# Altium integrated library Analog Devices Data Converters Digital-to-Analog Converters.IntLib: 2231 symbols (part 71 of 181)
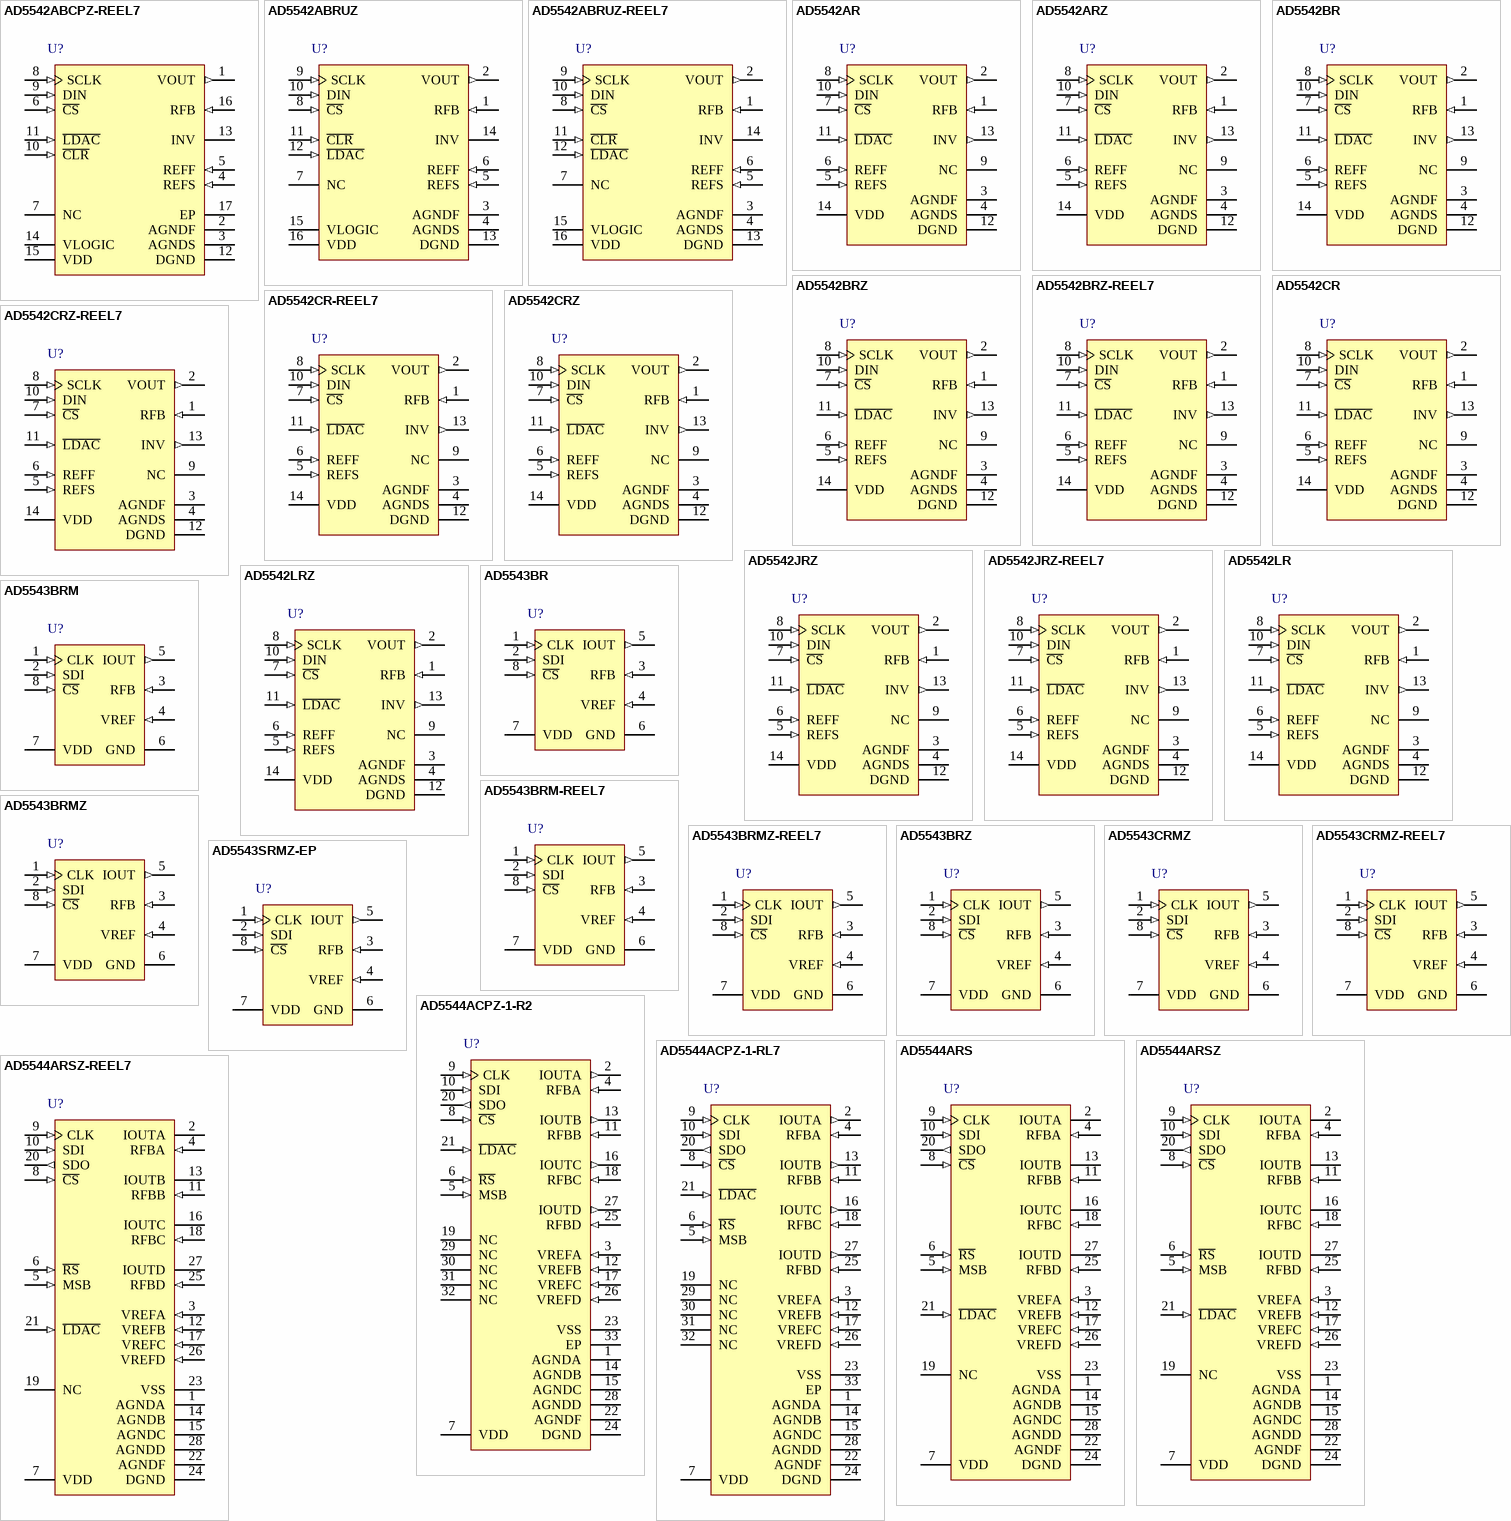
[diagram p184: symbols AD5542ABCPZ-REEL7 to AD5544ARSZ-REEL7]

## AD5543BRM
designator U?
Single 16-Bit Current Output Digital-to-Analog Converter with Serial Interface, -40 to +85 degC, RM-8, Tube; Generic Part Number: AD5543; Manufacturer: Analog Devices; PartNumber: AD5543BRM; # DAC Outputs: 1; Max V+: 5.5V; Op Pwr Diss: 55µW; Resolution (Bits): 16; Settling Time: 500ns; Single Supply: Yes; DatasheetVersion: Rev.F; PackageVersion: Aug-2005; PackageReference: RM-8; PackageDescription: 8-Lead Mini Small Outline Package [MSOP]; Supplier 1: Digi-Key; Supplier Part Number 1: AD5543BRM-ND; Supplier 2: Mouser; Supplier Part Number 2: 584-AD5543BRM; Packing: Tube; RoHS: N; Mounting Technology: Surface Mount; Code_JEDEC: MO-187-AA; ComponentLink1Description: Manufacturer URL; ComponentLink1URL: http://www.analog.com/en/index.html; ComponentLink2Description: Datasheet; ComponentLink2URL: http://www.analog.com/static/imported-files/data_sheets/AD5543_5553.pdf; ComponentLink3Description: Package Specification; ComponentLink3URL: http://www.analog.com/static/imported-files/packages/PKG_PDF/MSOP%28RM%29/RM_8.pdf; ComponentLink4Description: Product URL; ComponentLink4URL: http://www.analog.com/en/digital-to-analog-converters/da-converters/ad5543/products/product.html; ComponentLink5Description: Reference Design URL; ComponentLink5URL: http://www.analog.com/en/digital-to-analog-converters/da-converters/ad5543/products/product.html#prod_cross_sell
footprint RM-8_N (TSOP, 8-Leads, Body 3x3mm, Pitch 0.65mm, IPC Medium Density)
footprint RM-8_L (TSOP, 8-Leads, Body 3x3mm, Pitch 0.65mm, IPC High Density)
footprint RM-8_M (TSOP, 8-Leads, Body 3x3mm, Pitch 0.65mm, IPC Low Density)
pins: 1 CLK (in) "Clock Input. Positive-edge triggered, clocks data into shift register.", 2 SDI (in) "Serial Register Input. Data loads directly into the shift register MSB first. Extra leading bits are ignored.", 3 RFB (in) "Internal Matching Feedback Resistor. This pin connects to an external op amp for voltage output.", 4 VREF (in) "DAC Reference Input Pin. Establishes DAC full-scale voltage. Constant input resistance vs. code.", 5 IOUT (out) "DAC Current Output. This pin connects to the inverting terminal of the external precision I-to-V op amp for voltage output.", 6 GND (power) "Analog and Digital Ground.", 7 VDD (power) "Positive Power Supply Input. Specified range of operation at 5 V +/- 10%.", 8 ~{CS} (in) "Chip Select. Active low digital input. Transfers shift-register data to DAC register on rising edge. See Table 4 for operation."

## AD5543BRM-REEL7
designator U?
Single 16-Bit Current Output Digital-to-Analog Converter with Serial Interface, -40 to +85 degC, RM-8, Reel; Generic Part Number: AD5543; Manufacturer: Analog Devices; PartNumber: AD5543BRM-REEL7; # DAC Outputs: 1; Max V+: 5.5V; Op Pwr Diss: 55µW; Resolution (Bits): 16; Settling Time: 500ns; Single Supply: Yes; DatasheetVersion: Rev.F; PackageVersion: Aug-2005; PackageReference: RM-8; PackageDescription: 8-Lead Mini Small Outline Package [MSOP]; Supplier 1: Digi-Key; Supplier Part Number 1: AD5543BRM-REEL7-ND; Supplier 2: Newark; Supplier Part Number 2: 50H3196; Supplier 3: Mouser; Supplier Part Number 3: 584-AD5543BRM-R7; Packing: Reel; RoHS: N; Mounting Technology: Surface Mount; Code_JEDEC: MO-187-AA; ComponentLink1Description: Manufacturer URL; ComponentLink1URL: http://www.analog.com/en/index.html; ComponentLink2Description: Datasheet; ComponentLink2URL: http://www.analog.com/static/imported-files/data_sheets/AD5543_5553.pdf; ComponentLink3Description: Package Specification; ComponentLink3URL: http://www.analog.com/static/imported-files/packages/PKG_PDF/MSOP%28RM%29/RM_8.pdf; ComponentLink4Description: Product URL; ComponentLink4URL: http://www.analog.com/en/digital-to-analog-converters/da-converters/ad5543/products/product.html; ComponentLink5Description: Reference Design URL; ComponentLink5URL: http://www.analog.com/en/digital-to-analog-converters/da-converters/ad5543/products/product.html#prod_cross_sell
footprint RM-8_N (TSOP, 8-Leads, Body 3x3mm, Pitch 0.65mm, IPC Medium Density)
footprint RM-8_L (TSOP, 8-Leads, Body 3x3mm, Pitch 0.65mm, IPC High Density)
footprint RM-8_M (TSOP, 8-Leads, Body 3x3mm, Pitch 0.65mm, IPC Low Density)
pins: 1 CLK (in) "Clock Input. Positive-edge triggered, clocks data into shift register.", 2 SDI (in) "Serial Register Input. Data loads directly into the shift register MSB first. Extra leading bits are ignored.", 3 RFB (in) "Internal Matching Feedback Resistor. This pin connects to an external op amp for voltage output.", 4 VREF (in) "DAC Reference Input Pin. Establishes DAC full-scale voltage. Constant input resistance vs. code.", 5 IOUT (out) "DAC Current Output. This pin connects to the inverting terminal of the external precision I-to-V op amp for voltage output.", 6 GND (power) "Analog and Digital Ground.", 7 VDD (power) "Positive Power Supply Input. Specified range of operation at 5 V +/- 10%.", 8 ~{CS} (in) "Chip Select. Active low digital input. Transfers shift-register data to DAC register on rising edge. See Table 4 for operation."

## AD5543BRMZ
designator U?
Single 16-Bit Current Output Digital-to-Analog Converter with Serial Interface, -40 to +85 degC, RM-8, Pb-Free, Tube; Generic Part Number: AD5543; Manufacturer: Analog Devices; PartNumber: AD5543BRMZ; # DAC Outputs: 1; Max V+: 5.5V; Op Pwr Diss: 55µW; Resolution (Bits): 16; Settling Time: 500ns; Single Supply: Yes; DatasheetVersion: Rev.F; PackageVersion: Aug-2005; PackageReference: RM-8; PackageDescription: 8-Lead Mini Small Outline Package [MSOP]; Supplier 1: Digi-Key; Supplier Part Number 1: AD5543BRMZ-ND; Supplier 2: Farnell; Supplier Part Number 2: 2312801; Supplier 3: Newark; Supplier Part Number 3: 59K4215; Supplier 4: Mouser; Supplier Part Number 4: 584-AD5543BRMZ; Packing: Tube; RoHS: Y; Mounting Technology: Surface Mount; Code_JEDEC: MO-187-AA; ComponentLink1Description: Manufacturer URL; ComponentLink1URL: http://www.analog.com/en/index.html; ComponentLink2Description: Datasheet; ComponentLink2URL: http://www.analog.com/static/imported-files/data_sheets/AD5543_5553.pdf; ComponentLink3Description: Package Specification; ComponentLink3URL: http://www.analog.com/static/imported-files/packages/PKG_PDF/MSOP%28RM%29/RM_8.pdf; ComponentLink4Description: Product URL; ComponentLink4URL: http://www.analog.com/en/digital-to-analog-converters/da-converters/ad5543/products/product.html; ComponentLink5Description: Reference Design URL; ComponentLink5URL: http://www.analog.com/en/digital-to-analog-converters/da-converters/ad5543/products/product.html#prod_cross_sell
footprint RM-8_N (TSOP, 8-Leads, Body 3x3mm, Pitch 0.65mm, IPC Medium Density)
footprint RM-8_L (TSOP, 8-Leads, Body 3x3mm, Pitch 0.65mm, IPC High Density)
footprint RM-8_M (TSOP, 8-Leads, Body 3x3mm, Pitch 0.65mm, IPC Low Density)
pins: 1 CLK (in) "Clock Input. Positive-edge triggered, clocks data into shift register.", 2 SDI (in) "Serial Register Input. Data loads directly into the shift register MSB first. Extra leading bits are ignored.", 3 RFB (in) "Internal Matching Feedback Resistor. This pin connects to an external op amp for voltage output.", 4 VREF (in) "DAC Reference Input Pin. Establishes DAC full-scale voltage. Constant input resistance vs. code.", 5 IOUT (out) "DAC Current Output. This pin connects to the inverting terminal of the external precision I-to-V op amp for voltage output.", 6 GND (power) "Analog and Digital Ground.", 7 VDD (power) "Positive Power Supply Input. Specified range of operation at 5 V +/- 10%.", 8 ~{CS} (in) "Chip Select. Active low digital input. Transfers shift-register data to DAC register on rising edge. See Table 4 for operation."

## AD5543BRMZ-REEL7
designator U?
Single 16-Bit Current Output Digital-to-Analog Converter with Serial Interface, -40 to +85 degC, RM-8, Pb-Free, Reel; Generic Part Number: AD5543; Manufacturer: Analog Devices; PartNumber: AD5543BRMZ-REEL7; # DAC Outputs: 1; Max V+: 5.5V; Op Pwr Diss: 55µW; Resolution (Bits): 16; Settling Time: 500ns; Single Supply: Yes; DatasheetVersion: Rev.F; PackageVersion: Aug-2005; PackageReference: RM-8; PackageDescription: 8-Lead Mini Small Outline Package [MSOP]; Supplier 1: Digi-Key; Supplier Part Number 1: AD5543BRMZ-REEL7-ND; Supplier 2: Mouser; Supplier Part Number 2: 584-AD5543BRMZ-R7; Packing: Reel; RoHS: Y; Mounting Technology: Surface Mount; Code_JEDEC: MO-187-AA; ComponentLink1Description: Manufacturer URL; ComponentLink1URL: http://www.analog.com/en/index.html; ComponentLink2Description: Datasheet; ComponentLink2URL: http://www.analog.com/static/imported-files/data_sheets/AD5543_5553.pdf; ComponentLink3Description: Package Specification; ComponentLink3URL: http://www.analog.com/static/imported-files/packages/PKG_PDF/MSOP%28RM%29/RM_8.pdf; ComponentLink4Description: Product URL; ComponentLink4URL: http://www.analog.com/en/digital-to-analog-converters/da-converters/ad5543/products/product.html; ComponentLink5Description: Reference Design URL; ComponentLink5URL: http://www.analog.com/en/digital-to-analog-converters/da-converters/ad5543/products/product.html#prod_cross_sell
footprint RM-8_N (TSOP, 8-Leads, Body 3x3mm, Pitch 0.65mm, IPC Medium Density)
footprint RM-8_L (TSOP, 8-Leads, Body 3x3mm, Pitch 0.65mm, IPC High Density)
footprint RM-8_M (TSOP, 8-Leads, Body 3x3mm, Pitch 0.65mm, IPC Low Density)
pins: 1 CLK (in) "Clock Input. Positive-edge triggered, clocks data into shift register.", 2 SDI (in) "Serial Register Input. Data loads directly into the shift register MSB first. Extra leading bits are ignored.", 3 RFB (in) "Internal Matching Feedback Resistor. This pin connects to an external op amp for voltage output.", 4 VREF (in) "DAC Reference Input Pin. Establishes DAC full-scale voltage. Constant input resistance vs. code.", 5 IOUT (out) "DAC Current Output. This pin connects to the inverting terminal of the external precision I-to-V op amp for voltage output.", 6 GND (power) "Analog and Digital Ground.", 7 VDD (power) "Positive Power Supply Input. Specified range of operation at 5 V +/- 10%.", 8 ~{CS} (in) "Chip Select. Active low digital input. Transfers shift-register data to DAC register on rising edge. See Table 4 for operation."

## AD5543BRZ
designator U?
Single 16-Bit Current Output Digital-to-Analog Converter with Serial Interface, -40 to +85 degC, R-8, Pb-Free, Tube; Generic Part Number: AD5543; Manufacturer: Analog Devices; PartNumber: AD5543BRZ; # DAC Outputs: 1; Max V+: 5.5V; Op Pwr Diss: 55µW; Resolution (Bits): 16; Settling Time: 500ns; Single Supply: Yes; DatasheetVersion: Rev.F; PackageVersion: 060506-A; PackageReference: R-8; PackageDescription: 8-Lead Standard Small Outline Package [SOIC_N] Narrow Body; Supplier 1: Digi-Key; Supplier Part Number 1: AD5543BRZ-ND; Supplier 2: Farnell; Supplier Part Number 2: 1438376; Supplier 3: Newark; Supplier Part Number 3: 59K4216; Supplier 4: Mouser; Supplier Part Number 4: 584-AD5543BRZ; Packing: Tube; RoHS: Y; Mounting Technology: Surface Mount; Code_JEDEC: MS-012-AA; Code_IPC: SOIC127P600-8; ComponentLink1Description: Manufacturer URL; ComponentLink1URL: http://www.analog.com/en/index.html; ComponentLink2Description: Datasheet; ComponentLink2URL: http://www.analog.com/static/imported-files/data_sheets/AD5543_5553.pdf; ComponentLink3Description: Package Specification; ComponentLink3URL: http://www.analog.com/static/imported-files/packages/PKG_PDF/SOIC_Narrow%20(R)/R_8.pdf; ComponentLink4Description: Product URL; ComponentLink4URL: http://www.analog.com/en/digital-to-analog-converters/da-converters/ad5543/products/product.html; ComponentLink5Description: Reference Design URL; ComponentLink5URL: http://www.analog.com/en/digital-to-analog-converters/da-converters/ad5543/products/product.html#prod_cross_sell
footprint R-8_N (SOIC, 8-Leads, Body 4.9x3.9mm, Pitch 1.27mm, IPC Medium Density)
footprint R-8_L (SOIC, 8-Leads, Body 4.9x3.9mm, Pitch 1.27mm, IPC High Density)
footprint R-8_M (SOIC, 8-Leads, Body 4.9x3.9mm, Pitch 1.27mm, IPC Low Density)
pins: 1 CLK (in) "Clock Input. Positive-edge triggered, clocks data into shift register.", 2 SDI (in) "Serial Register Input. Data loads directly into the shift register MSB first. Extra leading bits are ignored.", 3 RFB (in) "Internal Matching Feedback Resistor. This pin connects to an external op amp for voltage output.", 4 VREF (in) "DAC Reference Input Pin. Establishes DAC full-scale voltage. Constant input resistance vs. code.", 5 IOUT (out) "DAC Current Output. This pin connects to the inverting terminal of the external precision I-to-V op amp for voltage output.", 6 GND (power) "Analog and Digital Ground.", 7 VDD (power) "Positive Power Supply Input. Specified range of operation at 5 V +/- 10%.", 8 ~{CS} (in) "Chip Select. Active low digital input. Transfers shift-register data to DAC register on rising edge.See Table 4 for operation."

## AD5543CRMZ
designator U?
Single 16-Bit Current Output Digital-to-Analog Converter with Serial Interface, -40 to +85 degC, RM-8, Pb-Free, Tube; Generic Part Number: AD5543; Manufacturer: Analog Devices; PartNumber: AD5543CRMZ; # DAC Outputs: 1; Max V+: 5.5V; Op Pwr Diss: 55µW; Resolution (Bits): 16; Settling Time: 500ns; Single Supply: Yes; DatasheetVersion: Rev.F; PackageVersion: Aug-2005; PackageReference: RM-8; PackageDescription: 8-Lead Mini Small Outline Package [MSOP]; Supplier 1: Digi-Key; Supplier Part Number 1: AD5543CRMZ-ND; Supplier 2: Newark; Supplier Part Number 2: 51R0717; Supplier 3: Mouser; Supplier Part Number 3: 584-AD5543CRMZ; Packing: Tube; RoHS: Y; Mounting Technology: Surface Mount; Code_JEDEC: MO-187-AA; ComponentLink1Description: Manufacturer URL; ComponentLink1URL: http://www.analog.com/en/index.html; ComponentLink2Description: Datasheet; ComponentLink2URL: http://www.analog.com/static/imported-files/data_sheets/AD5543_5553.pdf; ComponentLink3Description: Package Specification; ComponentLink3URL: http://www.analog.com/static/imported-files/packages/PKG_PDF/MSOP%28RM%29/RM_8.pdf; ComponentLink4Description: Product URL; ComponentLink4URL: http://www.analog.com/en/digital-to-analog-converters/da-converters/ad5555/products/product.html; ComponentLink5Description: Reference Design URL; ComponentLink5URL: http://www.analog.com/en/digital-to-analog-converters/da-converters/ad5543/products/product.html#prod_cross_sell
footprint RM-8_N (TSOP, 8-Leads, Body 3x3mm, Pitch 0.65mm, IPC Medium Density)
footprint RM-8_L (TSOP, 8-Leads, Body 3x3mm, Pitch 0.65mm, IPC High Density)
footprint RM-8_M (TSOP, 8-Leads, Body 3x3mm, Pitch 0.65mm, IPC Low Density)
pins: 1 CLK (in) "Clock Input. Positive-edge triggered, clocks data into shift register.", 2 SDI (in) "Serial Register Input. Data loads directly into the shift register MSB first. Extra leading bits are ignored.", 3 RFB (in) "Internal Matching Feedback Resistor. This pin connects to an external op amp for voltage output.", 4 VREF (in) "DAC Reference Input Pin. Establishes DAC full-scale voltage. Constant input resistance vs. code.", 5 IOUT (out) "DAC Current Output. This pin connects to the inverting terminal of the external precision I-to-V op amp for voltage output.", 6 GND (power) "Analog and Digital Ground.", 7 VDD (power) "Positive Power Supply Input. Specified range of operation at 5 V +/- 10%.", 8 ~{CS} (in) "Chip Select. Active low digital input. Transfers shift-register data to DAC register on rising edge. See Table 4 for operation."

## AD5543CRMZ-REEL7
designator U?
Single 16-Bit Current Output Digital-to-Analog Converter with Serial Interface, -40 to +85 degC, RM-8, Pb-Free, Reel; Generic Part Number: AD5543; Manufacturer: Analog Devices; PartNumber: AD5543CRMZ-REEL7; # DAC Outputs: 1; Max V+: 5.5V; Op Pwr Diss: 55µW; Resolution (Bits): 16; Settling Time: 500ns; Single Supply: Yes; DatasheetVersion: Rev.F; PackageVersion: Aug-2005; PackageReference: RM-8; PackageDescription: 8-Lead Mini Small Outline Package [MSOP]; Supplier 1: Digi-Key; Supplier Part Number 1: AD5543CRMZ-REEL7-ND; Supplier 2: Mouser; Supplier Part Number 2: 584-AD5543CRMZ-R7; Packing: Reel; RoHS: Y; Mounting Technology: Surface Mount; Code_JEDEC: MO-187-AA; ComponentLink1Description: Manufacturer URL; ComponentLink1URL: http://www.analog.com/en/index.html; ComponentLink2Description: Datasheet; ComponentLink2URL: http://www.analog.com/static/imported-files/data_sheets/AD5543_5553.pdf; ComponentLink3Description: Package Specification; ComponentLink3URL: http://www.analog.com/static/imported-files/packages/PKG_PDF/MSOP%28RM%29/RM_8.pdf; ComponentLink4Description: Product URL; ComponentLink4URL: http://www.analog.com/en/digital-to-analog-converters/da-converters/ad5543/products/product.html; ComponentLink5Description: Reference Design URL; ComponentLink5URL: http://www.analog.com/en/digital-to-analog-converters/da-converters/ad5543/products/product.html#prod_cross_sell
footprint RM-8_N (TSOP, 8-Leads, Body 3x3mm, Pitch 0.65mm, IPC Medium Density)
footprint RM-8_L (TSOP, 8-Leads, Body 3x3mm, Pitch 0.65mm, IPC High Density)
footprint RM-8_M (TSOP, 8-Leads, Body 3x3mm, Pitch 0.65mm, IPC Low Density)
pins: 1 CLK (in) "Clock Input. Positive-edge triggered, clocks data into shift register.", 2 SDI (in) "Serial Register Input. Data loads directly into the shift register MSB first. Extra leading bits are ignored.", 3 RFB (in) "Internal Matching Feedback Resistor. This pin connects to an external op amp for voltage output.", 4 VREF (in) "DAC Reference Input Pin. Establishes DAC full-scale voltage. Constant input resistance vs. code.", 5 IOUT (out) "DAC Current Output. This pin connects to the inverting terminal of the external precision I-to-V op amp for voltage output.", 6 GND (power) "Analog and Digital Ground.", 7 VDD (power) "Positive Power Supply Input. Specified range of operation at 5 V +/- 10%.", 8 ~{CS} (in) "Chip Select. Active low digital input. Transfers shift-register data to DAC register on rising edge. See Table 4 for operation."

## AD5543SRMZ-EP
designator U?
Single 16-Bit Current Output Digital-to-Analog Converter with Serial Interface, -55 to +125 degC, RM-8, Pb-Free, Tube; Generic Part Number: AD5543; Manufacturer: Analog Devices; PartNumber: AD5543SRMZ-EP; # DAC Outputs: 1; Max V+: 5.5V; Op Pwr Diss: 55µW; Resolution (Bits): 16; Settling Time: 500ns; Single Supply: Yes; DatasheetVersion: Rev.0; PackageVersion: Aug-2005; PackageReference: RM-8; PackageDescription: 8-Lead Mini Small Outline Package [MSOP]; Supplier 1: Digi-Key; Supplier Part Number 1: AD5543SRMZ-EP-ND; Supplier 2: Mouser; Supplier Part Number 2: 584-AD5543SRMZ-EP; Packing: Tube; RoHS: Y; Mounting Technology: Surface Mount; Code_JEDEC: MO-187-AA; ComponentLink1Description: Manufacturer URL; ComponentLink1URL: http://www.analog.com/en/index.html; ComponentLink2Description: Datasheet; ComponentLink2URL: http://www.analog.com/static/imported-files/data_sheets/AD5543-EP.pdf; ComponentLink3Description: Package Specification; ComponentLink3URL: http://www.analog.com/static/imported-files/packages/PKG_PDF/MSOP%28RM%29/RM_8.pdf; ComponentLink4Description: Product URL; ComponentLink4URL: http://www.analog.com/en/digital-to-analog-converters/da-converters/ad5543/products/product.html; ComponentLink5Description: Reference Design URL; ComponentLink5URL: http://www.analog.com/en/digital-to-analog-converters/da-converters/ad5543/products/product.html#prod_cross_sell
footprint RM-8_N (TSOP, 8-Leads, Body 3x3mm, Pitch 0.65mm, IPC Medium Density)
footprint RM-8_L (TSOP, 8-Leads, Body 3x3mm, Pitch 0.65mm, IPC High Density)
footprint RM-8_M (TSOP, 8-Leads, Body 3x3mm, Pitch 0.65mm, IPC Low Density)
pins: 1 CLK (in) "Clock Input. Positive-edge triggered, clocks data into shift register.", 2 SDI (in) "Serial Register Input. Data loads directly into the shift register MSB first. Extra leading bits are ignored.", 3 RFB (in) "Internal Matching Feedback Resistor. This pin connects to an external op amp for voltage output.", 4 VREF (in) "DAC Reference Input Pin. Establishes DAC full-scale voltage. Constant input resistance vs. code.", 5 IOUT (out) "DAC Current Output. This pin connects to the inverting terminal of the external precision I-to-V op amp for voltage output.", 6 GND (power) "Analog and Digital Ground.", 7 VDD (power) "Positive Power Supply Input. Specified range of operation at 5 V +/- 10%.", 8 ~{CS} (in) "Chip Select. Active low digital input. Transfers shift-register data to DAC register on rising edge. See Table 4 for operation."

## AD5544ACPZ-1-R2
designator U?
Quad 16-Bit Digital-to-Analog Converter with Serial Interface, -40 to +125 degC, CP-32-11, Pb-Free, Reel; Generic Part Number: AD5544; Manufacturer: Analog Devices; PartNumber: AD5544ACPZ-1-R2; # DAC Outputs: 4; Max V+: 5.5V; Op Pwr Diss: 1.25mW; Resolution (Bits): 16; Settling Time: 900ns; Single Supply: Yes; DatasheetVersion: Rev.F; PackageVersion: 011708-A; PackageReference: CP-32-11; PackageDescription: 32-Lead Lead Frame Chip Scale Package [LFCSP_VQ] 5 x 5 mm Body, Very Thin Quad; Supplier 1: Digi-Key; Supplier Part Number 1: AD5544ACPZ-1-R2-ND; Supplier 2: Mouser; Supplier Part Number 2: 584-AD5544ACPZ-1-R2; Packing: Reel; RoHS: Y; Mounting Technology: Surface Mount; ComponentLink1Description: Manufacturer URL; ComponentLink1URL: http://www.analog.com/en/index.html; ComponentLink2Description: Datasheet; ComponentLink2URL: http://www.analog.com/static/imported-files/data_sheets/AD5544_5554.pdf; ComponentLink3Description: Package Specification; ComponentLink3URL: http://www.analog.com/static/imported-files/packages/PKG_PDF/LFCSP(CP)/CP-32/CP_32_11.pdf; ComponentLink4Description: Product URL; ComponentLink4URL: http://www.analog.com/en/digital-to-analog-converters/da-converters/ad5544/products/product.html
footprint CP-32-11_N (QFN, 32-Leads, Body 5x5mm, Pitch 0.5mm, Thermal Pad 3.6x3.6mm, IPC Medium Density)
footprint CP-32-11_L (QFN, 32-Leads, Body 5x5mm, Pitch 0.5mm, Thermal Pad 3.6x3.6mm, IPC High Density)
footprint CP-32-11_M (QFN, 32-Leads, Body 5x5mm, Pitch 0.5mm, Thermal Pad 3.6x3.6mm, IPC Low Density)
pins: 1 AGNDA (power) "DAC A Analog Ground.", 2 IOUTA (out) "DAC A Current Output.", 3 VREFA (in) "DAC A Reference Voltage Input Terminal. Establishes DAC A full-scale output voltage. This pin can be tied to the VDD pin.", 4 RFBA (in) "Establish the voltage output for DAC A by connecting to an external amplifier output.", 5 MSB (in) "MSB Bit. Set pin during a reset pulse (R\S\) or at system power-on if tied to ground or VDD.", 6 ~{RS} (in) "Reset Pin, Active Low Input. Input registers and DAC registers are set to all 0s or half-scale code (0x8000 for the AD5544 and 0x2000 for the AD5554), determined by the voltage on the MSB pin. Register data = 0x0000 when MSB (See Datasheet)", 7 VDD (power) "Positive Power Supply Input. Specified range of operation: 5 V +/- 10%.", 8 ~{CS} (in) "Chip Select, Active Low Input. Disables shift register loading when high. Transfers serial register data to the input register when C\S\/L\D\A\C\ returns high. Does not affect L\D\A\C\ operation.", 9 CLK (in) "Clock Input. Positive edge clocks data into the shift register.", 10 SDI (in) "Serial Data Input. Input data loads directly into the shift register.", 11 RFBB (in) "Establish the voltage output for DAC B by connecting to an external amplifier output.", 12 VREFB (in) "DAC B Reference Voltage Input Terminal. Establishes DAC B full-scale output voltage. This pin can be tied to the VDD pin.", 13 IOUTB (out) "DAC B Current Output.", 14 AGNDB (power) "DAC B Analog Ground.", 15 AGNDC (power) "DAC C Analog Ground.", 16 IOUTC (out) "DAC C Current Output.", 17 VREFC (in) "DAC C Reference Voltage Input Terminal. Establishes DAC C full-scale output voltage. This pin can be tied to the VDD pin.", 18 RFBC (in) "Establish the voltage output for DAC C by connecting to an external amplifier output.", 19 NC "No Connect. Leave the pin unconnected.", 20 SDO (out) "Serial Data Output. Input data loads directly into the shift register. Data appears at SDO at 19 clock pulses for the AD5544 and 17 clock pulses for the AD5554 after input at the SDI pin.", 21 ~{LDAC} (in) "Load DAC Register Strobe, Level Sensitive Active Low. Transfers all input register data to DAC registers. Asynchronous active low input. See Table 8 and Table 9 for operation.", 22 AGNDF (power) "High Current Analog Force Ground.", 23 VSS (power) "Negative Bias Power Supply Input. Specified range of operation: -5.5 V to +0.3 V.", 24 DGND (power) "Digital Ground Pin.", 25 RFBD (in) "Establish the voltage output for DAC D by connecting to an external amplifier output.", 26 VREFD (in) "DAC D Reference Voltage Input Terminal. Establishes DAC D full-scale output voltage. This pin can be tied to the VDD pin.", 27 IOUTD (out) "DAC D Current Output.", 28 AGNDD (power) "DAC D Analog Ground.", 29 NC "Do not connect.", 30 NC "Do not connect.", 31 NC "Do not connect.", 32 NC "Do not connect.", 33 EP (power) "Connect the exposed pad to AGNDx."

## AD5544ACPZ-1-RL7
designator U?
Quad 16-Bit Digital-to-Analog Converter with Serial Interface, -40 to +125 degC, CP-32-11, Pb-Free, Reel; Generic Part Number: AD5544; Manufacturer: Analog Devices; PartNumber: AD5544ACPZ-1-RL7; # DAC Outputs: 4; Max V+: 5.5V; Op Pwr Diss: 1.25mW; Resolution (Bits): 16; Settling Time: 900ns; Single Supply: Yes; DatasheetVersion: Rev.F; PackageVersion: 011708-A; PackageReference: CP-32-11; PackageDescription: 32-Lead Lead Frame Chip Scale Package [LFCSP_VQ] 5 x 5 mm Body, Very Thin Quad; Supplier 1: Mouser; Supplier Part Number 1: N/A; Packing: Reel; RoHS: Y; Mounting Technology: Surface Mount; ComponentLink1Description: Manufacturer URL; ComponentLink1URL: http://www.analog.com/en/index.html; ComponentLink2Description: Datasheet; ComponentLink2URL: http://www.analog.com/static/imported-files/data_sheets/AD5544_5554.pdf; ComponentLink3Description: Package Specification; ComponentLink3URL: http://www.analog.com/static/imported-files/packages/PKG_PDF/LFCSP(CP)/CP-32/CP_32_11.pdf; ComponentLink4Description: Product URL; ComponentLink4URL: http://www.analog.com/en/digital-to-analog-converters/da-converters/ad5544/products/product.html
footprint CP-32-11_N (QFN, 32-Leads, Body 5x5mm, Pitch 0.5mm, Thermal Pad 3.6x3.6mm, IPC Medium Density)
footprint CP-32-11_L (QFN, 32-Leads, Body 5x5mm, Pitch 0.5mm, Thermal Pad 3.6x3.6mm, IPC High Density)
footprint CP-32-11_M (QFN, 32-Leads, Body 5x5mm, Pitch 0.5mm, Thermal Pad 3.6x3.6mm, IPC Low Density)
pins: 1 AGNDA (power) "DAC A Analog Ground.", 2 IOUTA (out) "DAC A Current Output.", 3 VREFA (in) "DAC A Reference Voltage Input Terminal. Establishes DAC A full-scale output voltage. This pin can be tied to the VDD pin.", 4 RFBA (in) "Establish the voltage output for DAC A by connecting to an external amplifier output.", 5 MSB (in) "MSB Bit. Set pin during a reset pulse (R\S\) or at system power-on if tied to ground or VDD.", 6 ~{RS} (in) "Reset Pin, Active Low Input. Input registers and DAC registers are set to all 0s or half-scale code (0x8000 for the AD5544 and 0x2000 for the AD5554), determined by the voltage on the MSB pin. Register data = 0x0000 when MSB (See Datasheet)", 7 VDD (power) "Positive Power Supply Input. Specified range of operation: 5 V +/- 10%.", 8 ~{CS} (in) "Chip Select, Active Low Input. Disables shift register loading when high. Transfers serial register data to the input register when C\S\/L\D\A\C\ returns high. Does not affect L\D\A\C\ operation.", 9 CLK (in) "Clock Input. Positive edge clocks data into the shift register.", 10 SDI (in) "Serial Data Input. Input data loads directly into the shift register.", 11 RFBB (in) "Establish the voltage output for DAC B by connecting to an external amplifier output.", 12 VREFB (in) "DAC B Reference Voltage Input Terminal. Establishes DAC B full-scale output voltage. This pin can be tied to the VDD pin.", 13 IOUTB (out) "DAC B Current Output.", 14 AGNDB (power) "DAC B Analog Ground.", 15 AGNDC (power) "DAC C Analog Ground.", 16 IOUTC (out) "DAC C Current Output.", 17 VREFC (in) "DAC C Reference Voltage Input Terminal. Establishes DAC C full-scale output voltage. This pin can be tied to the VDD pin.", 18 RFBC (in) "Establish the voltage output for DAC C by connecting to an external amplifier output.", 19 NC "No Connect. Leave the pin unconnected.", 20 SDO (out) "Serial Data Output. Input data loads directly into the shift register. Data appears at SDO at 19 clock pulses for the AD5544 and 17 clock pulses for the AD5554 after input at the SDI pin.", 21 ~{LDAC} (in) "Load DAC Register Strobe, Level Sensitive Active Low. Transfers all input register data to DAC registers. Asynchronous active low input. See Table 8 and Table 9 for operation.", 22 AGNDF (power) "High Current Analog Force Ground.", 23 VSS (power) "Negative Bias Power Supply Input. Specified range of operation: -5.5 V to +0.3 V.", 24 DGND (power) "Digital Ground Pin.", 25 RFBD (in) "Establish the voltage output for DAC D by connecting to an external amplifier output.", 26 VREFD (in) "DAC D Reference Voltage Input Terminal. Establishes DAC D full-scale output voltage. This pin can be tied to the VDD pin.", 27 IOUTD (out) "DAC D Current Output.", 28 AGNDD (power) "DAC D Analog Ground.", 29 NC "Do not connect.", 30 NC "Do not connect.", 31 NC "Do not connect.", 32 NC "Do not connect.", 33 EP (power) "Connect the exposed pad to AGNDx."

## AD5544ARS
designator U?
Quad 16-Bit Digital-to-Analog Converter with Serial Interface, -40 to +125 degC, RS-28, Tube; Generic Part Number: AD5544; Manufacturer: Analog Devices; PartNumber: AD5544ARS; # DAC Outputs: 4; Max V+: 5.5V; Op Pwr Diss: 1.25mW; Resolution (Bits): 16; Settling Time: 900ns; Single Supply: Yes; DatasheetVersion: Rev.F; PackageVersion: 060106-A; PackageReference: RS-28; PackageDescription: 28-Lead Shrink Small Outline Package [SSOP]; Supplier 1: Digi-Key; Supplier Part Number 1: AD5544ARS-ND; Supplier 2: Newark; Supplier Part Number 2: 02C6990; Supplier 3: Mouser; Supplier Part Number 3: 584-AD5544ARS; Packing: Tube; RoHS: N; Mounting Technology: Surface Mount; Code_JEDEC: MO-150-AH; ComponentLink1Description: Manufacturer URL; ComponentLink1URL: http://www.analog.com/en/index.html; ComponentLink2Description: Datasheet; ComponentLink2URL: http://www.analog.com/static/imported-files/data_sheets/AD5544_5554.pdf; ComponentLink3Description: Package Specification; ComponentLink3URL: http://www.analog.com/static/imported-files/packages/32122249223724RS_28.pdf; ComponentLink4Description: Product URL; ComponentLink4URL: http://www.analog.com/en/digital-to-analog-converters/da-converters/ad5544/products/product.html
footprint RS-28_N (SOP, 28-Leads, Body 10.2x5.3mm, Pitch 0.65mm, IPC Medium Density)
footprint RS-28_L (SOP, 28-Leads, Body 10.2x5.3mm, Pitch 0.65mm, IPC High Density)
footprint RS-28_M (SOP, 28-Leads, Body 10.2x5.3mm, Pitch 0.65mm, IPC Low Density)
pins: 1 AGNDA (power) "DAC A Analog Ground.", 2 IOUTA "DAC A Current Output.", 3 VREFA (in) "DAC A Reference Voltage Input Terminal. Establishes DAC A full-scale output voltage. This pin can be tied to the VDD pin.", 4 RFBA (in) "Establish the voltage output for DAC A by connecting to an external amplifier output.", 5 MSB (in) "MSB Bit. Set pin during a reset pulse (R\S\) or at system power-on if tied to ground or VDD.", 6 ~{RS} (in) "Reset Pin, Active Low Input. Input registers and DAC registers are set to all 0s or half-scale code (0x8000 for the AD5544 and 0x2000 for the AD5554), determined by the voltage on the MSB pin. Register data = 0x0000 when MSB (See Datasheet)", 7 VDD (power) "Positive Power Supply Input. Specified range of operation: 5 V +/- 10%.", 8 ~{CS} (in) "Chip Select, Active Low Input. Disables shift register loading when high. Transfers serial register data to the input register when C\S\/L\D\A\C\ returns high. Does not affect L\D\A\C\ operation.", 9 CLK (in) "Clock Input. Positive edge clocks data into the shift register.", 10 SDI (in) "Serial Data Input. Input data loads directly into the shift register", 11 RFBB (in) "Establish the voltage output for DAC B by connecting to an external amplifier output.", 12 VREFB (in) "DAC B Reference Voltage Input Terminal. Establishes DAC B full-scale output voltage. This pin can be tied to the VDD pin.", 13 IOUTB "DAC B Current Output.", 14 AGNDB (power) "DAC B Analog Ground.", 15 AGNDC (power) "DAC C Analog Ground.", 16 IOUTC "DAC C Current Output.", 17 VREFC (in) "DAC C Reference Voltage Input Terminal. Establishes DAC C full-scale output voltage. This pin can be tied to the VDD pin.", 18 RFBC (in) "Establish the voltage output for DAC C by connecting to an external amplifier output", 19 NC "No Connect. Leave the pin unconnected.", 20 SDO (out) "Serial Data Output. Input data loads directly into the shift register. Data appears at SDO at 19 clock pulses for the AD5544 and 17 clock pulses for the AD5554 after input at the SDI pin.", 21 ~{LDAC} (in) "Load DAC Register Strobe, Level Sensitive Active Low. Transfers all input register data to DAC registers. Asynchronous active low input. See Table 8 and Table 9 for operation.", 22 AGNDF (power) "High Current Analog Force Ground.", 23 VSS (power) "Negative Bias Power Supply Input. Specified range of operation: -5.5 V to +0.3 V.", 24 DGND (power) "Digital Ground Pin.", 25 RFBD (in) "Establish the voltage output for DAC D by connecting to an external amplifier output.", 26 VREFD (in) "DAC D Reference Voltage Input Terminal. Establishes DAC D full-scale output voltage. This pin can be tied to the VDD pin.", 27 IOUTD "DAC D Current Output.", 28 AGNDD (power) "DAC D Analog Ground."

## AD5544ARSZ
designator U?
Quad 16-Bit Digital-to-Analog Converter with Serial Interface, -40 to +125 degC, RS-28, Pb-Free, Tube; Generic Part Number: AD5544; Manufacturer: Analog Devices; PartNumber: AD5544ARSZ; # DAC Outputs: 4; Max V+: 5.5V; Op Pwr Diss: 1.25mW; Resolution (Bits): 16; Settling Time: 900ns; Single Supply: Yes; DatasheetVersion: Rev.F; PackageVersion: 060106-A; PackageReference: RS-28; PackageDescription: 28-Lead Shrink Small Outline Package [SSOP]; Supplier 1: Digi-Key; Supplier Part Number 1: AD5544ARSZ-ND; Supplier 2: Farnell; Supplier Part Number 2: 1423772; Supplier 3: Farnell; Supplier Part Number 3: 2118729; Supplier 4: Newark; Supplier Part Number 4: 18M6080; Supplier 5: Mouser; Supplier Part Number 5: 584-AD5544ARSZ; Packing: Tube; RoHS: Y; Mounting Technology: Surface Mount; Code_JEDEC: MO-150-AH; ComponentLink1Description: Manufacturer URL; ComponentLink1URL: http://www.analog.com/en/index.html; ComponentLink2Description: Datasheet; ComponentLink2URL: http://www.analog.com/static/imported-files/data_sheets/AD5544_5554.pdf; ComponentLink3Description: Package Specification; ComponentLink3URL: http://www.analog.com/static/imported-files/packages/32122249223724RS_28.pdf; ComponentLink4Description: Product URL; ComponentLink4URL: http://www.analog.com/en/digital-to-analog-converters/da-converters/ad5544/products/product.html
footprint RS-28_N (SOP, 28-Leads, Body 10.2x5.3mm, Pitch 0.65mm, IPC Medium Density)
footprint RS-28_L (SOP, 28-Leads, Body 10.2x5.3mm, Pitch 0.65mm, IPC High Density)
footprint RS-28_M (SOP, 28-Leads, Body 10.2x5.3mm, Pitch 0.65mm, IPC Low Density)
pins: 1 AGNDA (power) "DAC A Analog Ground.", 2 IOUTA "DAC A Current Output.", 3 VREFA (in) "DAC A Reference Voltage Input Terminal. Establishes DAC A full-scale output voltage. This pin can be tied to the VDD pin.", 4 RFBA (in) "Establish the voltage output for DAC A by connecting to an external amplifier output.", 5 MSB (in) "MSB Bit. Set pin during a reset pulse (R\S\) or at system power-on if tied to ground or VDD.", 6 ~{RS} (in) "Reset Pin, Active Low Input. Input registers and DAC registers are set to all 0s or half-scale code (0x8000 for the AD5544 and 0x2000 for the AD5554), determined by the voltage on the MSB pin. Register data = 0x0000 when MSB (See Datasheet)", 7 VDD (power) "Positive Power Supply Input. Specified range of operation: 5 V +/- 10%.", 8 ~{CS} (in) "Chip Select, Active Low Input. Disables shift register loading when high. Transfers serial register data to the input register when C\S\/L\D\A\C\ returns high. Does not affect L\D\A\C\ operation.", 9 CLK (in) "Clock Input. Positive edge clocks data into the shift register.", 10 SDI (in) "Serial Data Input. Input data loads directly into the shift register", 11 RFBB (in) "Establish the voltage output for DAC B by connecting to an external amplifier output.", 12 VREFB (in) "DAC B Reference Voltage Input Terminal. Establishes DAC B full-scale output voltage. This pin can be tied to the VDD pin.", 13 IOUTB "DAC B Current Output.", 14 AGNDB (power) "DAC B Analog Ground.", 15 AGNDC (power) "DAC C Analog Ground.", 16 IOUTC "DAC C Current Output.", 17 VREFC (in) "DAC C Reference Voltage Input Terminal. Establishes DAC C full-scale output voltage. This pin can be tied to the VDD pin.", 18 RFBC (in) "Establish the voltage output for DAC C by connecting to an external amplifier output", 19 NC "No Connect. Leave the pin unconnected.", 20 SDO (out) "Serial Data Output. Input data loads directly into the shift register. Data appears at SDO at 19 clock pulses for the AD5544 and 17 clock pulses for the AD5554 after input at the SDI pin.", 21 ~{LDAC} (in) "Load DAC Register Strobe, Level Sensitive Active Low. Transfers all input register data to DAC registers. Asynchronous active low input. See Table 8 and Table 9 for operation.", 22 AGNDF (power) "High Current Analog Force Ground.", 23 VSS (power) "Negative Bias Power Supply Input. Specified range of operation: -5.5 V to +0.3 V.", 24 DGND (power) "Digital Ground Pin.", 25 RFBD (in) "Establish the voltage output for DAC D by connecting to an external amplifier output.", 26 VREFD (in) "DAC D Reference Voltage Input Terminal. Establishes DAC D full-scale output voltage. This pin can be tied to the VDD pin.", 27 IOUTD "DAC D Current Output.", 28 AGNDD (power) "DAC D Analog Ground."

## AD5544ARSZ-REEL7
designator U?
Quad 16-Bit Digital-to-Analog Converter with Serial Interface, -40 to +125 degC, RS-28, Pb-Free, Reel; Generic Part Number: AD5544; Manufacturer: Analog Devices; PartNumber: AD5544ARSZ-REEL7; # DAC Outputs: 4; Max V+: 5.5V; Op Pwr Diss: 1.25mW; Resolution (Bits): 16; Settling Time: 900ns; Single Supply: Yes; DatasheetVersion: Rev.F; PackageVersion: 060106-A; PackageReference: RS-28; PackageDescription: 28-Lead Shrink Small Outline Package [SSOP]; Supplier 1: Digi-Key; Supplier Part Number 1: AD5544ARSZ-REEL7-ND; Supplier 2: Newark; Supplier Part Number 2: 51R0719; Supplier 3: Mouser; Supplier Part Number 3: 584-AD5544ARSZ-R7; Packing: Reel; RoHS: Y; Mounting Technology: Surface Mount; Code_JEDEC: MO-150-AH; ComponentLink1Description: Manufacturer URL; ComponentLink1URL: http://www.analog.com/en/index.html; ComponentLink2Description: Datasheet; ComponentLink2URL: http://www.analog.com/static/imported-files/data_sheets/AD5544_5554.pdf; ComponentLink3Description: Package Specification; ComponentLink3URL: http://www.analog.com/static/imported-files/packages/32122249223724RS_28.pdf; ComponentLink4Description: Product URL; ComponentLink4URL: http://www.analog.com/en/digital-to-analog-converters/da-converters/ad5544/products/product.html
footprint RS-28_N (SOP, 28-Leads, Body 10.2x5.3mm, Pitch 0.65mm, IPC Medium Density)
footprint RS-28_L (SOP, 28-Leads, Body 10.2x5.3mm, Pitch 0.65mm, IPC High Density)
footprint RS-28_M (SOP, 28-Leads, Body 10.2x5.3mm, Pitch 0.65mm, IPC Low Density)
pins: 1 AGNDA (power) "DAC A Analog Ground.", 2 IOUTA "DAC A Current Output.", 3 VREFA (in) "DAC A Reference Voltage Input Terminal. Establishes DAC A full-scale output voltage. This pin can be tied to the VDD pin.", 4 RFBA (in) "Establish the voltage output for DAC A by connecting to an external amplifier output.", 5 MSB (in) "MSB Bit. Set pin during a reset pulse (R\S\) or at system power-on if tied to ground or VDD.", 6 ~{RS} (in) "Reset Pin, Active Low Input. Input registers and DAC registers are set to all 0s or half-scale code (0x8000 for the AD5544 and 0x2000 for the AD5554), determined by the voltage on the MSB pin. Register data = 0x0000 when MSB (See Datasheet)", 7 VDD (power) "Positive Power Supply Input. Specified range of operation: 5 V +/- 10%.", 8 ~{CS} (in) "Chip Select, Active Low Input. Disables shift register loading when high. Transfers serial register data to the input register when C\S\/L\D\A\C\ returns high. Does not affect L\D\A\C\ operation.", 9 CLK (in) "Clock Input. Positive edge clocks data into the shift register.", 10 SDI (in) "Serial Data Input. Input data loads directly into the shift register", 11 RFBB (in) "Establish the voltage output for DAC B by connecting to an external amplifier output.", 12 VREFB (in) "DAC B Reference Voltage Input Terminal. Establishes DAC B full-scale output voltage. This pin can be tied to the VDD pin.", 13 IOUTB "DAC B Current Output.", 14 AGNDB (power) "DAC B Analog Ground.", 15 AGNDC (power) "DAC C Analog Ground.", 16 IOUTC "DAC C Current Output.", 17 VREFC (in) "DAC C Reference Voltage Input Terminal. Establishes DAC C full-scale output voltage. This pin can be tied to the VDD pin.", 18 RFBC (in) "Establish the voltage output for DAC C by connecting to an external amplifier output", 19 NC "No Connect. Leave the pin unconnected.", 20 SDO (out) "Serial Data Output. Input data loads directly into the shift register. Data appears at SDO at 19 clock pulses for the AD5544 and 17 clock pulses for the AD5554 after input at the SDI pin.", 21 ~{LDAC} (in) "Load DAC Register Strobe, Level Sensitive Active Low. Transfers all input register data to DAC registers. Asynchronous active low input. See Table 8 and Table 9 for operation.", 22 AGNDF (power) "High Current Analog Force Ground.", 23 VSS (power) "Negative Bias Power Supply Input. Specified range of operation: -5.5 V to +0.3 V.", 24 DGND (power) "Digital Ground Pin.", 25 RFBD (in) "Establish the voltage output for DAC D by connecting to an external amplifier output.", 26 VREFD (in) "DAC D Reference Voltage Input Terminal. Establishes DAC D full-scale output voltage. This pin can be tied to the VDD pin.", 27 IOUTD "DAC D Current Output.", 28 AGNDD (power) "DAC D Analog Ground."

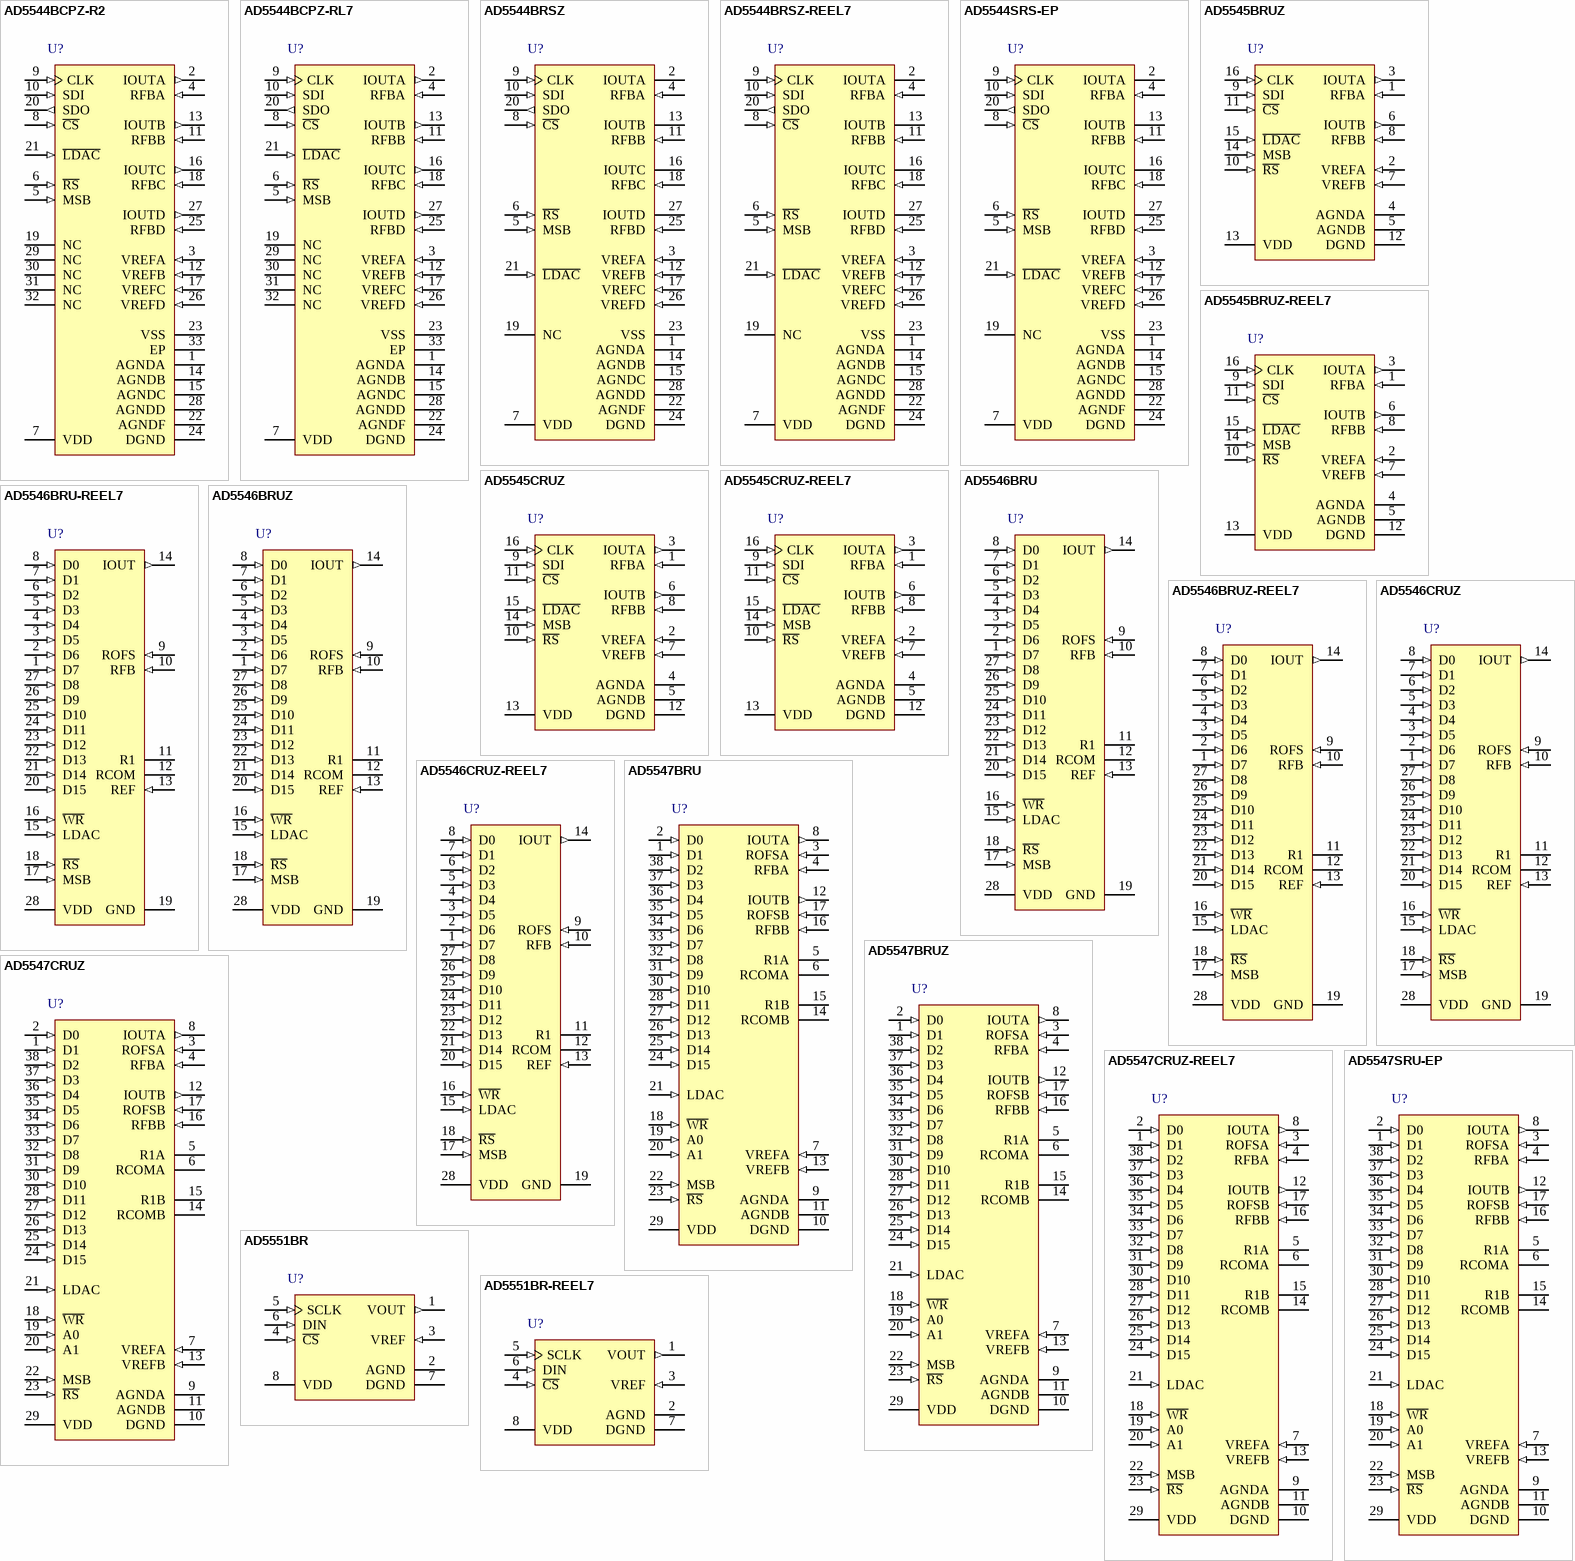
[diagram p40: symbols AD5544BCPZ-R2 to AD5551BR-REEL7]

## AD5544BCPZ-R2
designator U?
Quad 16-Bit Digital-to-Analog Converter with Serial Interface, -40 to +125 degC, CP-32-11, Pb-Free, Reel; Generic Part Number: AD5544; Manufacturer: Analog Devices; PartNumber: AD5544BCPZ-R2; # DAC Outputs: 4; Max V+: 5.5V; Op Pwr Diss: 1.25mW; Resolution (Bits): 16; Settling Time: 900ns; Single Supply: Yes; DatasheetVersion: Rev.F; PackageVersion: 011708-A; PackageReference: CP-32-11; PackageDescription: 32-Lead Lead Frame Chip Scale Package [LFCSP_VQ] 5 x 5 mm Body, Very Thin Quad; Supplier 1: Mouser; Supplier Part Number 1: N/A; Packing: Reel; RoHS: Y; Mounting Technology: Surface Mount; ComponentLink1Description: Manufacturer URL; ComponentLink1URL: http://www.analog.com/en/index.html; ComponentLink2Description: Datasheet; ComponentLink2URL: http://www.analog.com/static/imported-files/data_sheets/AD5544_5554.pdf; ComponentLink3Description: Package Specification; ComponentLink3URL: http://www.analog.com/static/imported-files/packages/PKG_PDF/LFCSP(CP)/CP-32/CP_32_11.pdf; ComponentLink4Description: Product URL; ComponentLink4URL: http://www.analog.com/en/digital-to-analog-converters/da-converters/ad5544/products/product.html
footprint CP-32-11_N (QFN, 32-Leads, Body 5x5mm, Pitch 0.5mm, Thermal Pad 3.6x3.6mm, IPC Medium Density)
footprint CP-32-11_L (QFN, 32-Leads, Body 5x5mm, Pitch 0.5mm, Thermal Pad 3.6x3.6mm, IPC High Density)
footprint CP-32-11_M (QFN, 32-Leads, Body 5x5mm, Pitch 0.5mm, Thermal Pad 3.6x3.6mm, IPC Low Density)
pins: 1 AGNDA (power) "DAC A Analog Ground.", 2 IOUTA (out) "DAC A Current Output.", 3 VREFA (in) "DAC A Reference Voltage Input Terminal. Establishes DAC A full-scale output voltage. This pin can be tied to the VDD pin.", 4 RFBA (in) "Establish the voltage output for DAC A by connecting to an external amplifier output.", 5 MSB (in) "MSB Bit. Set pin during a reset pulse (R\S\) or at system power-on if tied to ground or VDD.", 6 ~{RS} (in) "Reset Pin, Active Low Input. Input registers and DAC registers are set to all 0s or half-scale code (0x8000 for the AD5544 and 0x2000 for the AD5554), determined by the voltage on the MSB pin. Register data = 0x0000 when MSB (See Datasheet)", 7 VDD (power) "Positive Power Supply Input. Specified range of operation: 5 V +/- 10%.", 8 ~{CS} (in) "Chip Select, Active Low Input. Disables shift register loading when high. Transfers serial register data to the input register when C\S\/L\D\A\C\ returns high. Does not affect L\D\A\C\ operation.", 9 CLK (in) "Clock Input. Positive edge clocks data into the shift register.", 10 SDI (in) "Serial Data Input. Input data loads directly into the shift register.", 11 RFBB (in) "Establish the voltage output for DAC B by connecting to an external amplifier output.", 12 VREFB (in) "DAC B Reference Voltage Input Terminal. Establishes DAC B full-scale output voltage. This pin can be tied to the VDD pin.", 13 IOUTB (out) "DAC B Current Output.", 14 AGNDB (power) "DAC B Analog Ground.", 15 AGNDC (power) "DAC C Analog Ground.", 16 IOUTC (out) "DAC C Current Output.", 17 VREFC (in) "DAC C Reference Voltage Input Terminal. Establishes DAC C full-scale output voltage. This pin can be tied to the VDD pin.", 18 RFBC (in) "Establish the voltage output for DAC C by connecting to an external amplifier output.", 19 NC "No Connect. Leave the pin unconnected.", 20 SDO (out) "Serial Data Output. Input data loads directly into the shift register. Data appears at SDO at 19 clock pulses for the AD5544 and 17 clock pulses for the AD5554 after input at the SDI pin.", 21 ~{LDAC} (in) "Load DAC Register Strobe, Level Sensitive Active Low. Transfers all input register data to DAC registers. Asynchronous active low input. See Table 8 and Table 9 for operation.", 22 AGNDF (power) "High Current Analog Force Ground.", 23 VSS (power) "Negative Bias Power Supply Input. Specified range of operation: -5.5 V to +0.3 V.", 24 DGND (power) "Digital Ground Pin.", 25 RFBD (in) "Establish the voltage output for DAC D by connecting to an external amplifier output.", 26 VREFD (in) "DAC D Reference Voltage Input Terminal. Establishes DAC D full-scale output voltage. This pin can be tied to the VDD pin.", 27 IOUTD (out) "DAC D Current Output.", 28 AGNDD (power) "DAC D Analog Ground.", 29 NC "Do not connect.", 30 NC "Do not connect.", 31 NC "Do not connect.", 32 NC "Do not connect.", 33 EP (power) "Connect the exposed pad to AGNDx."